# EAGLE library part LTC6802-1 (library monitors)
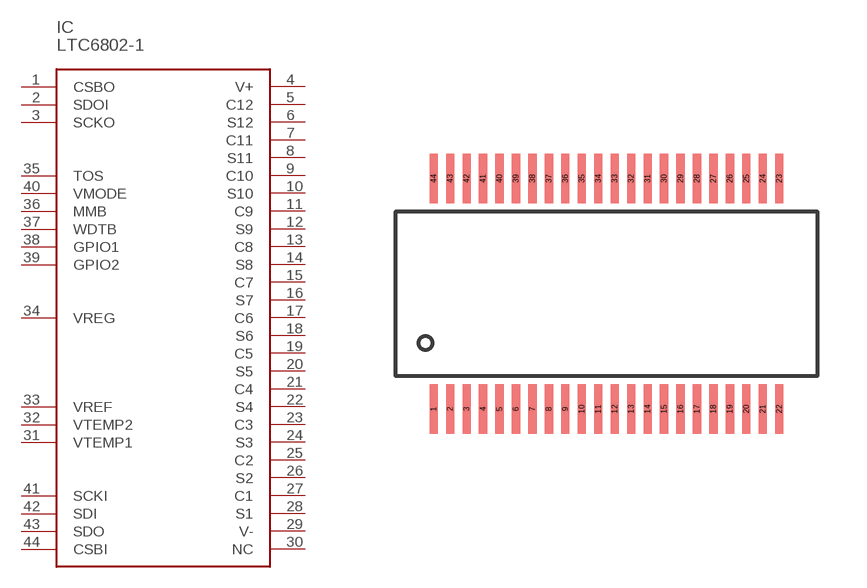
[diagram p0: symbol with the pads of SSOP44; footprint SSOP44]

Designator prefix IC

## LTC6802-1  [SSOP44]
1  CSBO
2  SDOI
3  SCKO
4  V+
5  C12
6  S12
7  C11
8  S11
9  C10
10  S10
11  C9
12  S9
13  C8
14  S8
15  C7
16  S7
17  C6
18  S6
19  C5
20  S5
21  C4
22  S4
23  C3
24  S3
25  C2
26  S2
27  C1
28  S1
29  V-
30  NC
31  VTEMP1
32  VTEMP2
33  VREF
34  VREG
35  TOS
36  MMB
37  WDTB
38  GPIO1
39  GPIO2
40  VMODE
41  SCKI
42  SDI
43  SDO
44  CSBI

## Footprint SSOP44 (pad centres in mm)
smd 0.25 x 1.5: 1 -5.25,-3.5; 2 -4.75,-3.5; 3 -4.25,-3.5; 4 -3.75,-3.5; 5 -3.25,-3.5; 6 -2.75,-3.5; 7 -2.25,-3.5; 8 -1.75,-3.5; 9 -1.25,-3.5; 10 -0.75,-3.5; 11 -0.25,-3.5; 12 0.25,-3.5; 13 0.75,-3.5; 14 1.25,-3.5; 15 1.75,-3.5; 16 2.25,-3.5; 17 2.75,-3.5; 18 3.25,-3.5; 19 3.75,-3.5; 20 4.25,-3.5; 21 4.75,-3.5; 22 5.25,-3.5; 23 5.25,3.5; 24 4.75,3.5; 25 4.25,3.5; 26 3.75,3.5; 27 3.25,3.5; 28 2.75,3.5; 29 2.25,3.5; 30 1.75,3.5; 31 1.25,3.5; 32 0.75,3.5; 33 0.25,3.5; 34 -0.25,3.5; 35 -0.75,3.5; 36 -1.25,3.5; 37 -1.75,3.5; 38 -2.25,3.5; 39 -2.75,3.5; 40 -3.25,3.5; 41 -3.75,3.5; 42 -4.25,3.5; 43 -4.75,3.5; 44 -5.25,3.5